# Altium footprint library RT_SUPER_EXT.PcbLib: 1 footprints
Each footprint in its own frame and in the unit in brackets; x right, y up, seen from the top. Pads: shape width x height; smd on the part's side, far side on the other; paste and mask are expansions set on the pad; w line width, h text height; cw(c..) or ccw(c..) is an arc to the next point about the centre after c.
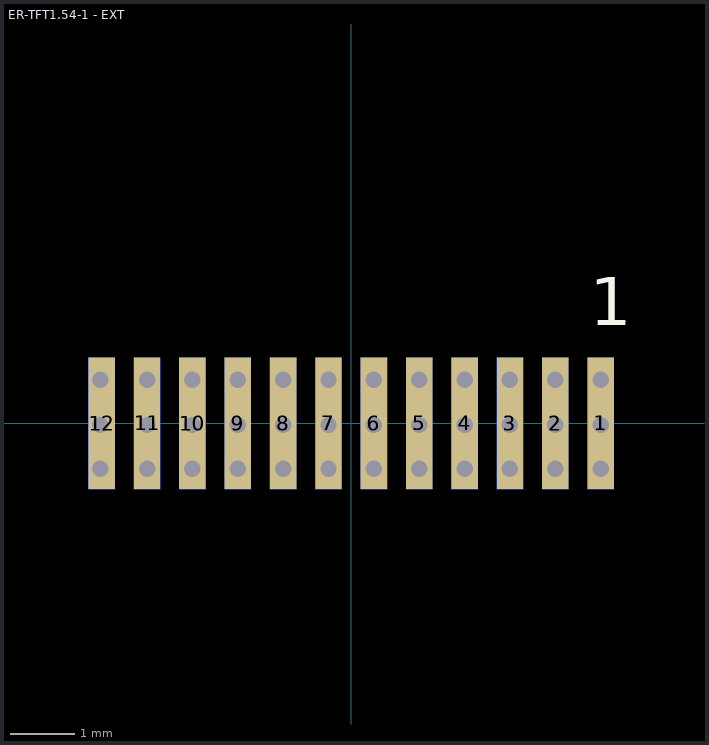
[diagram p0: the footprint, top view; thin cyan lines are the x and y axes]

## ER-TFT1.54-1 - EXT [mil]
pads (24):
  rect 16x80 smd far side mask+0: 1(151.57,0) 2(124.02,0) 3(96.46,0) 4(68.9,0) 5(41.34,0) 6(13.78,0) 7(-13.78,0) 8(-41.34,0) 9(-68.9,0) 10(-96.46,0) 11(-124.02,0) 12(-151.57,0)
  rect 16x80 smd mask+0: 1(151.57,0) 2(124.02,0) 3(96.46,0) 4(68.9,0) 5(41.34,0) 6(13.78,0) 7(-13.78,0) 8(-41.34,0) 9(-68.9,0) 10(-96.46,0) 11(-124.02,0) 12(-151.57,0)
via -152.56,26.57 diameter 10 hole 10
via -152.56,-27.56 diameter 10 hole 10
via -152.56,-0.98 diameter 10 hole 10
via -124.02,26.57 diameter 10 hole 10
via -124.02,-27.56 diameter 10 hole 10
via -124.02,-0.98 diameter 10 hole 10
via -96.46,26.57 diameter 10 hole 10
via -96.46,-27.56 diameter 10 hole 10
via -96.46,-0.98 diameter 10 hole 10
via -68.9,26.57 diameter 10 hole 10
via -68.9,-27.56 diameter 10 hole 10
via -68.9,-0.98 diameter 10 hole 10
via -41.34,26.57 diameter 10 hole 10
via -41.34,-27.56 diameter 10 hole 10
via -41.34,-0.98 diameter 10 hole 10
via -13.78,26.57 diameter 10 hole 10
via -13.78,-27.56 diameter 10 hole 10
via -13.78,-0.98 diameter 10 hole 10
via 13.78,26.57 diameter 10 hole 10
via 13.78,-27.56 diameter 10 hole 10
via 13.78,-0.98 diameter 10 hole 10
via 41.34,26.57 diameter 10 hole 10
via 41.34,-27.56 diameter 10 hole 10
via 41.34,-0.98 diameter 10 hole 10
via 68.9,26.57 diameter 10 hole 10
via 68.9,-27.56 diameter 10 hole 10
via 68.9,-0.98 diameter 10 hole 10
via 96.46,26.57 diameter 10 hole 10
via 96.46,-27.56 diameter 10 hole 10
via 96.46,-0.98 diameter 10 hole 10
via 124.02,26.57 diameter 10 hole 10
via 124.02,-27.56 diameter 10 hole 10
via 124.02,-0.98 diameter 10 hole 10
via 151.57,26.57 diameter 10 hole 10
via 151.57,-27.56 diameter 10 hole 10
via 151.57,-0.98 diameter 10 hole 10
Top Overlay:
  text "1" at 145,50 h50